# EAGLE library part MICROSD (library sdcard)
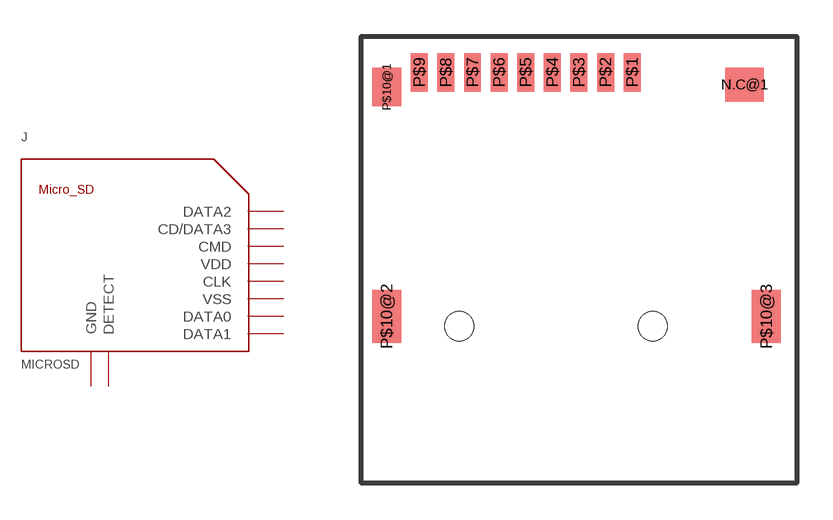
[diagram p0: symbol with the pads of MICRO_SD_PUSH_PULL; footprint MICRO_SD_PUSH_PULL]

Designator prefix J

## MICROSD  [MICRO_SD_PUSH_PULL]
P$1  DATA2
P$2  CD/DATA3
P$3  CMD
P$4  VDD
P$5  CLK
P$6  VSS
P$7  DATA0
P$8  DATA1
P$9  DETECT
P$10@1  GND
P$10@2  GND
P$10@3  GND

## Footprint MICRO_SD_PUSH_PULL (pad centres in mm)
smd 1.6 x 1.4: N.C@1 6.85,-0.5
smd 0.7 x 1.6: P$1 2.2,0; P$2 1.1,0; P$3 0,0; P$4 -1.1,0; P$5 -2.2,0; P$6 -3.3,0; P$7 -4.4,0; P$8 -5.5,0; P$9 -6.6,0
smd 1.2 x 1.6: P$10@1 -7.95,-0.6
smd 1.2 x 2.2: P$10@2 -7.95,-10.1; P$10@3 7.75,-10.1
hole 1.2 at 3.05,-10.5
hole 1.2 at -4.95,-10.5